# EAGLE library part ULN2803 (library custom)
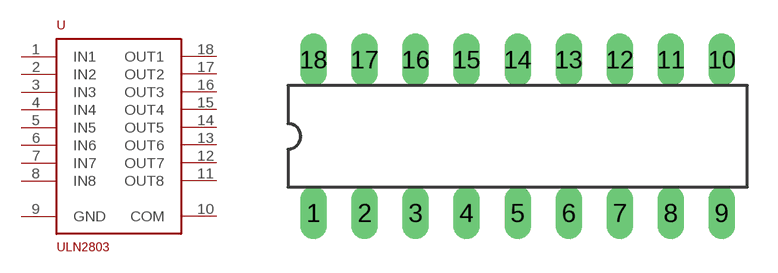
[diagram p19: symbol with the pads of DIL18; footprint DIL18]

Designator prefix -

## ULN2803  [DIL18]
1  IN1  in
2  IN2  in
3  IN3  in
4  IN4  in
5  IN5  in
6  IN6  in
7  IN7  in
8  IN8  in
9  GND  pwr
10  COM  pwr
11  OUT8  out
12  OUT7  out
13  OUT6  out
14  OUT5  out
15  OUT4  out
16  OUT3  out
17  OUT2  out
18  OUT1  out

## Footprint DIL18 (pad centres in mm)
Dual In Line package type P
drill 0.813 long: 1 -10.16,-3.81; 2 -7.62,-3.81; 3 -5.08,-3.81; 4 -2.54,-3.81; 5 0,-3.81; 6 2.54,-3.81; 7 5.08,-3.81; 8 7.62,-3.81; 9 10.16,-3.81; 10 10.16,3.81; 11 7.62,3.81; 12 5.08,3.81; 13 2.54,3.81; 14 0,3.81; 15 -2.54,3.81; 16 -5.08,3.81; 17 -7.62,3.81; 18 -10.16,3.81